# Altium footprint library Altera Cyclone V.PcbLib: 10 footprints (part 3 of 3)
Each footprint in its own frame and in the unit in brackets; x right, y up, seen from the top. Pads: shape width x height; smd on the part's side, far side on the other; paste and mask are expansions set on the pad; w line width, h text height; cw(c..) or ccw(c..) is an arc to the next point about the centre after c.
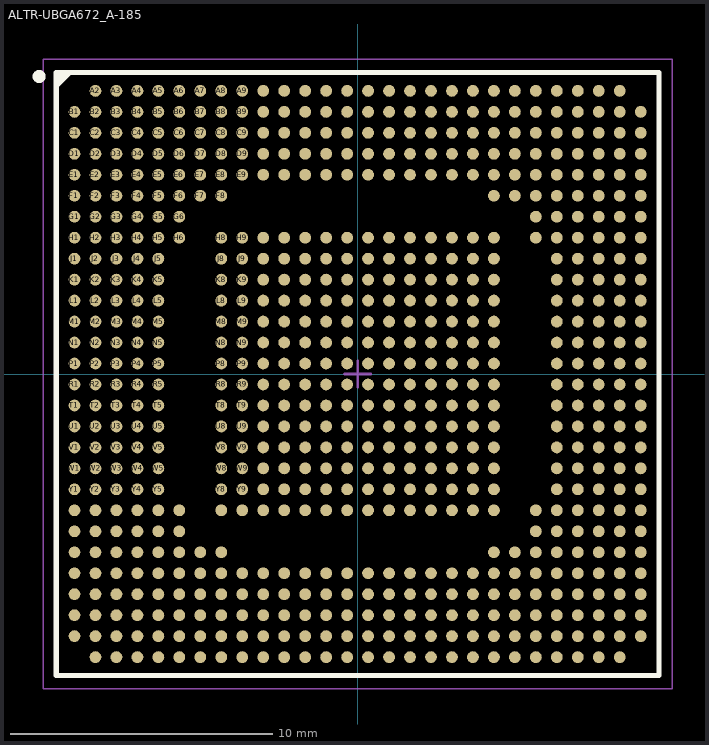
[diagram p2: the footprint, top view; thin cyan lines are the x and y axes]

## ALTR-UBGA672_A-185 [mm] "BGA, 672-Balls, Body 23x23mm, Pitch 0.8mm"
height 1.85
pads (672):
  round 0.45 smd: A2(-10,10.8) A3(-9.2,10.8) A4(-8.4,10.8) A5(-7.6,10.8) A6(-6.8,10.8) A7(-6,10.8) A8(-5.2,10.8) A9(-4.4,10.8) A10(-3.6,10.8) A11(-2.8,10.8) A12(-2,10.8) A13(-1.2,10.8) A14(-0.4,10.8) A15(0.4,10.8) A16(1.2,10.8) A17(2,10.8) A18(2.8,10.8) A19(3.6,10.8) A20(4.4,10.8) A21(5.2,10.8) A22(6,10.8) A23(6.8,10.8) A24(7.6,10.8) A25(8.4,10.8) A26(9.2,10.8) A27(10,10.8) AA1(-10.8,-5.2) AA2(-10,-5.2) AA3(-9.2,-5.2) AA4(-8.4,-5.2) AA5(-7.6,-5.2) AA6(-6.8,-5.2) AA8(-5.2,-5.2) AA9(-4.4,-5.2) AA10(-3.6,-5.2) AA11(-2.8,-5.2) AA12(-2,-5.2) AA13(-1.2,-5.2) AA14(-0.4,-5.2) AA15(0.4,-5.2) AA16(1.2,-5.2) AA17(2,-5.2) AA18(2.8,-5.2) AA19(3.6,-5.2) AA20(4.4,-5.2) AA21(5.2,-5.2) AA23(6.8,-5.2) AA24(7.6,-5.2) AA25(8.4,-5.2) AA26(9.2,-5.2) AA27(10,-5.2) AA28(10.8,-5.2) AB1(-10.8,-6) AB2(-10,-6) AB3(-9.2,-6) AB4(-8.4,-6) AB5(-7.6,-6) AB6(-6.8,-6) AB23(6.8,-6) AB24(7.6,-6) AB25(8.4,-6) AB26(9.2,-6) AB27(10,-6) AB28(10.8,-6) AC1(-10.8,-6.8) AC2(-10,-6.8) AC3(-9.2,-6.8) AC4(-8.4,-6.8) AC5(-7.6,-6.8) AC6(-6.8,-6.8) AC7(-6,-6.8) AC8(-5.2,-6.8) AC21(5.2,-6.8) AC22(6,-6.8) AC23(6.8,-6.8) AC24(7.6,-6.8) AC25(8.4,-6.8) AC26(9.2,-6.8) AC27(10,-6.8) AC28(10.8,-6.8) AD1(-10.8,-7.6) AD2(-10,-7.6) AD3(-9.2,-7.6) AD4(-8.4,-7.6) AD5(-7.6,-7.6) AD6(-6.8,-7.6) AD7(-6,-7.6) AD8(-5.2,-7.6) AD9(-4.4,-7.6) AD10(-3.6,-7.6) AD11(-2.8,-7.6) AD12(-2,-7.6) AD13(-1.2,-7.6) AD14(-0.4,-7.6) AD15(0.4,-7.6) AD16(1.2,-7.6) AD17(2,-7.6) AD18(2.8,-7.6) AD19(3.6,-7.6) AD20(4.4,-7.6) AD21(5.2,-7.6) AD22(6,-7.6) AD23(6.8,-7.6) AD24(7.6,-7.6) AD25(8.4,-7.6) AD26(9.2,-7.6) AD27(10,-7.6) AD28(10.8,-7.6) AE1(-10.8,-8.4) AE2(-10,-8.4) AE3(-9.2,-8.4) AE4(-8.4,-8.4) AE5(-7.6,-8.4) AE6(-6.8,-8.4) AE7(-6,-8.4) AE8(-5.2,-8.4) AE9(-4.4,-8.4) AE10(-3.6,-8.4) AE11(-2.8,-8.4) AE12(-2,-8.4) AE13(-1.2,-8.4) AE14(-0.4,-8.4) AE15(0.4,-8.4) AE16(1.2,-8.4) AE17(2,-8.4) AE18(2.8,-8.4) AE19(3.6,-8.4) AE20(4.4,-8.4) AE21(5.2,-8.4) AE22(6,-8.4) AE23(6.8,-8.4) AE24(7.6,-8.4) AE25(8.4,-8.4) AE26(9.2,-8.4) AE27(10,-8.4) AE28(10.8,-8.4) AF1(-10.8,-9.2) AF2(-10,-9.2) AF3(-9.2,-9.2) AF4(-8.4,-9.2) AF5(-7.6,-9.2) AF6(-6.8,-9.2) AF7(-6,-9.2) AF8(-5.2,-9.2) AF9(-4.4,-9.2) AF10(-3.6,-9.2) AF11(-2.8,-9.2) AF12(-2,-9.2) AF13(-1.2,-9.2) AF14(-0.4,-9.2) AF15(0.4,-9.2) AF16(1.2,-9.2) AF17(2,-9.2) AF18(2.8,-9.2) AF19(3.6,-9.2) AF20(4.4,-9.2) AF21(5.2,-9.2) AF22(6,-9.2) AF23(6.8,-9.2) AF24(7.6,-9.2) AF25(8.4,-9.2) AF26(9.2,-9.2) AF27(10,-9.2) AF28(10.8,-9.2) AG1(-10.8,-10) AG2(-10,-10) AG3(-9.2,-10) AG4(-8.4,-10) AG5(-7.6,-10) AG6(-6.8,-10) AG7(-6,-10) AG8(-5.2,-10) AG9(-4.4,-10) AG10(-3.6,-10) AG11(-2.8,-10) AG12(-2,-10) AG13(-1.2,-10) AG14(-0.4,-10) AG15(0.4,-10) AG16(1.2,-10) AG17(2,-10) AG18(2.8,-10) AG19(3.6,-10) AG20(4.4,-10) AG21(5.2,-10) AG22(6,-10) AG23(6.8,-10) AG24(7.6,-10) AG25(8.4,-10) AG26(9.2,-10) AG27(10,-10) AG28(10.8,-10) AH2(-10,-10.8) AH3(-9.2,-10.8) AH4(-8.4,-10.8) AH5(-7.6,-10.8) AH6(-6.8,-10.8) AH7(-6,-10.8) AH8(-5.2,-10.8) AH9(-4.4,-10.8) AH10(-3.6,-10.8) AH11(-2.8,-10.8) AH12(-2,-10.8) AH13(-1.2,-10.8) AH14(-0.4,-10.8) AH15(0.4,-10.8) AH16(1.2,-10.8) AH17(2,-10.8) AH18(2.8,-10.8) AH19(3.6,-10.8) AH20(4.4,-10.8) AH21(5.2,-10.8) AH22(6,-10.8) AH23(6.8,-10.8) AH24(7.6,-10.8) AH25(8.4,-10.8) AH26(9.2,-10.8) AH27(10,-10.8) B1(-10.8,10) B2(-10,10) B3(-9.2,10) B4(-8.4,10) B5(-7.6,10) B6(-6.8,10) B7(-6,10) B8(-5.2,10) B9(-4.4,10) B10(-3.6,10) B11(-2.8,10) B12(-2,10) B13(-1.2,10) B14(-0.4,10) B15(0.4,10) B16(1.2,10) B17(2,10) B18(2.8,10) B19(3.6,10) B20(4.4,10) B21(5.2,10) B22(6,10) B23(6.8,10) B24(7.6,10) B25(8.4,10) B26(9.2,10) B27(10,10) B28(10.8,10) C1(-10.8,9.2) C2(-10,9.2) C3(-9.2,9.2) C4(-8.4,9.2) C5(-7.6,9.2) C6(-6.8,9.2) C7(-6,9.2) C8(-5.2,9.2) C9(-4.4,9.2) C10(-3.6,9.2) C11(-2.8,9.2) C12(-2,9.2) C13(-1.2,9.2) C14(-0.4,9.2) C15(0.4,9.2) C16(1.2,9.2) C17(2,9.2) C18(2.8,9.2) C19(3.6,9.2) C20(4.4,9.2) C21(5.2,9.2) C22(6,9.2) C23(6.8,9.2) C24(7.6,9.2) C25(8.4,9.2) C26(9.2,9.2) C27(10,9.2) C28(10.8,9.2) D1(-10.8,8.4) D2(-10,8.4) D3(-9.2,8.4) D4(-8.4,8.4) D5(-7.6,8.4) D6(-6.8,8.4) D7(-6,8.4) D8(-5.2,8.4) D9(-4.4,8.4) D10(-3.6,8.4) D11(-2.8,8.4) D12(-2,8.4) D13(-1.2,8.4) D14(-0.4,8.4) D15(0.4,8.4) D16(1.2,8.4) D17(2,8.4) D18(2.8,8.4) D19(3.6,8.4) D20(4.4,8.4) D21(5.2,8.4) D22(6,8.4) D23(6.8,8.4) D24(7.6,8.4) D25(8.4,8.4) D26(9.2,8.4) D27(10,8.4) D28(10.8,8.4) E1(-10.8,7.6) E2(-10,7.6) E3(-9.2,7.6) E4(-8.4,7.6) E5(-7.6,7.6) E6(-6.8,7.6) E7(-6,7.6) E8(-5.2,7.6) E9(-4.4,7.6) E10(-3.6,7.6) E11(-2.8,7.6) E12(-2,7.6) E13(-1.2,7.6) E14(-0.4,7.6) E15(0.4,7.6) E16(1.2,7.6) E17(2,7.6) E18(2.8,7.6) E19(3.6,7.6) E20(4.4,7.6) E21(5.2,7.6) E22(6,7.6) E23(6.8,7.6) E24(7.6,7.6) E25(8.4,7.6) E26(9.2,7.6) E27(10,7.6) E28(10.8,7.6) F1(-10.8,6.8) F2(-10,6.8) F3(-9.2,6.8) F4(-8.4,6.8) F5(-7.6,6.8) F6(-6.8,6.8) F7(-6,6.8) F8(-5.2,6.8) F21(5.2,6.8) F22(6,6.8) F23(6.8,6.8) F24(7.6,6.8) F25(8.4,6.8) F26(9.2,6.8) F27(10,6.8) F28(10.8,6.8) G1(-10.8,6) G2(-10,6) G3(-9.2,6) G4(-8.4,6) G5(-7.6,6) G6(-6.8,6) G23(6.8,6) G24(7.6,6) G25(8.4,6) G26(9.2,6) G27(10,6) G28(10.8,6) H1(-10.8,5.2) H2(-10,5.2) H3(-9.2,5.2) H4(-8.4,5.2) H5(-7.6,5.2) H6(-6.8,5.2) H8(-5.2,5.2) H9(-4.4,5.2) H10(-3.6,5.2) H11(-2.8,5.2) H12(-2,5.2) H13(-1.2,5.2) H14(-0.4,5.2) H15(0.4,5.2) H16(1.2,5.2) H17(2,5.2) H18(2.8,5.2) H19(3.6,5.2) H20(4.4,5.2) H21(5.2,5.2) H23(6.8,5.2) H24(7.6,5.2) H25(8.4,5.2) H26(9.2,5.2) H27(10,5.2) H28(10.8,5.2) J1(-10.8,4.4) J2(-10,4.4) J3(-9.2,4.4) J4(-8.4,4.4) J5(-7.6,4.4) J8(-5.2,4.4) J9(-4.4,4.4) J10(-3.6,4.4) J11(-2.8,4.4) J12(-2,4.4) J13(-1.2,4.4) J14(-0.4,4.4) J15(0.4,4.4) J16(1.2,4.4) J17(2,4.4) J18(2.8,4.4) J19(3.6,4.4) J20(4.4,4.4) J21(5.2,4.4) J24(7.6,4.4) J25(8.4,4.4) J26(9.2,4.4) J27(10,4.4) J28(10.8,4.4) K1(-10.8,3.6) K2(-10,3.6) K3(-9.2,3.6) K4(-8.4,3.6) K5(-7.6,3.6) K8(-5.2,3.6) K9(-4.4,3.6) K10(-3.6,3.6) K11(-2.8,3.6) K12(-2,3.6) K13(-1.2,3.6) K14(-0.4,3.6) K15(0.4,3.6) K16(1.2,3.6) K17(2,3.6) K18(2.8,3.6) K19(3.6,3.6) K20(4.4,3.6) K21(5.2,3.6) K24(7.6,3.6) K25(8.4,3.6) K26(9.2,3.6) K27(10,3.6) K28(10.8,3.6) L1(-10.8,2.8) L2(-10,2.8) L3(-9.2,2.8) L4(-8.4,2.8) L5(-7.6,2.8) L8(-5.2,2.8) L9(-4.4,2.8) L10(-3.6,2.8) L11(-2.8,2.8) L12(-2,2.8) L13(-1.2,2.8) L14(-0.4,2.8) L15(0.4,2.8) L16(1.2,2.8) L17(2,2.8) L18(2.8,2.8) L19(3.6,2.8) L20(4.4,2.8) L21(5.2,2.8) L24(7.6,2.8) L25(8.4,2.8) L26(9.2,2.8) L27(10,2.8) L28(10.8,2.8) M1(-10.8,2) M2(-10,2) M3(-9.2,2) M4(-8.4,2) M5(-7.6,2) M8(-5.2,2) M9(-4.4,2) M10(-3.6,2) M11(-2.8,2) M12(-2,2) M13(-1.2,2) M14(-0.4,2) M15(0.4,2) M16(1.2,2) M17(2,2) M18(2.8,2) M19(3.6,2) M20(4.4,2) M21(5.2,2) M24(7.6,2) M25(8.4,2) M26(9.2,2) M27(10,2) M28(10.8,2) N1(-10.8,1.2) N2(-10,1.2) N3(-9.2,1.2) N4(-8.4,1.2) N5(-7.6,1.2) N8(-5.2,1.2) N9(-4.4,1.2) N10(-3.6,1.2) N11(-2.8,1.2) N12(-2,1.2) N13(-1.2,1.2) N14(-0.4,1.2) N15(0.4,1.2) N16(1.2,1.2) N17(2,1.2) N18(2.8,1.2) N19(3.6,1.2) N20(4.4,1.2) N21(5.2,1.2) N24(7.6,1.2) N25(8.4,1.2) N26(9.2,1.2) N27(10,1.2) N28(10.8,1.2) P1(-10.8,0.4) P2(-10,0.4) P3(-9.2,0.4) P4(-8.4,0.4) P5(-7.6,0.4) P8(-5.2,0.4) P9(-4.4,0.4) P10(-3.6,0.4) P11(-2.8,0.4) P12(-2,0.4) P13(-1.2,0.4) P14(-0.4,0.4) P15(0.4,0.4) P16(1.2,0.4) P17(2,0.4) P18(2.8,0.4) P19(3.6,0.4) P20(4.4,0.4) P21(5.2,0.4) P24(7.6,0.4) P25(8.4,0.4) P26(9.2,0.4) P27(10,0.4) P28(10.8,0.4) R1(-10.8,-0.4) R2(-10,-0.4) R3(-9.2,-0.4) R4(-8.4,-0.4) R5(-7.6,-0.4) R8(-5.2,-0.4) R9(-4.4,-0.4) R10(-3.6,-0.4) R11(-2.8,-0.4) R12(-2,-0.4) R13(-1.2,-0.4) R14(-0.4,-0.4) R15(0.4,-0.4) R16(1.2,-0.4) R17(2,-0.4) R18(2.8,-0.4) R19(3.6,-0.4) R20(4.4,-0.4) R21(5.2,-0.4) R24(7.6,-0.4) R25(8.4,-0.4) R26(9.2,-0.4) R27(10,-0.4) R28(10.8,-0.4) T1(-10.8,-1.2) T2(-10,-1.2) T3(-9.2,-1.2) T4(-8.4,-1.2) T5(-7.6,-1.2) T8(-5.2,-1.2) T9(-4.4,-1.2) T10(-3.6,-1.2) T11(-2.8,-1.2) T12(-2,-1.2) T13(-1.2,-1.2) T14(-0.4,-1.2) T15(0.4,-1.2) T16(1.2,-1.2) T17(2,-1.2) T18(2.8,-1.2) T19(3.6,-1.2) T20(4.4,-1.2) T21(5.2,-1.2) T24(7.6,-1.2) T25(8.4,-1.2) T26(9.2,-1.2) T27(10,-1.2) T28(10.8,-1.2) U1(-10.8,-2) U2(-10,-2) U3(-9.2,-2) U4(-8.4,-2) U5(-7.6,-2) U8(-5.2,-2) U9(-4.4,-2) U10(-3.6,-2) U11(-2.8,-2) U12(-2,-2) U13(-1.2,-2) U14(-0.4,-2) U15(0.4,-2) U16(1.2,-2) U17(2,-2) U18(2.8,-2) U19(3.6,-2) U20(4.4,-2) U21(5.2,-2) U24(7.6,-2) U25(8.4,-2) U26(9.2,-2) U27(10,-2) U28(10.8,-2) V1(-10.8,-2.8) V2(-10,-2.8) V3(-9.2,-2.8) V4(-8.4,-2.8) V5(-7.6,-2.8) V8(-5.2,-2.8) V9(-4.4,-2.8) V10(-3.6,-2.8) V11(-2.8,-2.8) V12(-2,-2.8) V13(-1.2,-2.8) V14(-0.4,-2.8) V15(0.4,-2.8) V16(1.2,-2.8) V17(2,-2.8) V18(2.8,-2.8) V19(3.6,-2.8) V20(4.4,-2.8) V21(5.2,-2.8) V24(7.6,-2.8) V25(8.4,-2.8) V26(9.2,-2.8) V27(10,-2.8) V28(10.8,-2.8) W1(-10.8,-3.6) W2(-10,-3.6) W3(-9.2,-3.6) W4(-8.4,-3.6) W5(-7.6,-3.6) W8(-5.2,-3.6) W9(-4.4,-3.6) W10(-3.6,-3.6) W11(-2.8,-3.6) W12(-2,-3.6) W13(-1.2,-3.6) W14(-0.4,-3.6) W15(0.4,-3.6) W16(1.2,-3.6) W17(2,-3.6) W18(2.8,-3.6) W19(3.6,-3.6) W20(4.4,-3.6) W21(5.2,-3.6) W24(7.6,-3.6) W25(8.4,-3.6) W26(9.2,-3.6) W27(10,-3.6) W28(10.8,-3.6) Y1(-10.8,-4.4) Y2(-10,-4.4) Y3(-9.2,-4.4) Y4(-8.4,-4.4) Y5(-7.6,-4.4) Y8(-5.2,-4.4) Y9(-4.4,-4.4) Y10(-3.6,-4.4) Y11(-2.8,-4.4) Y12(-2,-4.4) Y13(-1.2,-4.4) Y14(-0.4,-4.4) Y15(0.4,-4.4) Y16(1.2,-4.4) Y17(2,-4.4) Y18(2.8,-4.4) Y19(3.6,-4.4) Y20(4.4,-4.4) Y21(5.2,-4.4) Y24(7.6,-4.4) Y25(8.4,-4.4) Y26(9.2,-4.4) Y27(10,-4.4) Y28(10.8,-4.4)
Top Overlay:
  circle w0.25: c-12.15,11.35 r0.125
  region: -10.984,11.5 -11.5,10.984 -11.5,11.5
  lines w0.2: -11.5,10.984 -10.984,11.5 ; -11.5,-11.5 11.5,-11.5 11.5,11.5 -11.5,11.5 -11.5,-11.5
Mechanical 13:
  lines w0.1: -11.5,-11.5 11.5,-11.5 11.5,11.5 -11.5,11.5 -11.5,-11.5
Mechanical 15:
  lines w0.05: -12,-12 12,-12 12,12 -12,12 -12,-12
  lines w0.1: -0.5,0 0.5,0 ; 0,-0.5 0,0.5
3D body: height 1.85, standoff 0.35, extent -11.5,-11.5 11.5,11.5